# Altium integrated library ST Video Processor.IntLib: 6 symbols
Pins are listed as number, name and electrical type; pins without a type are passive.

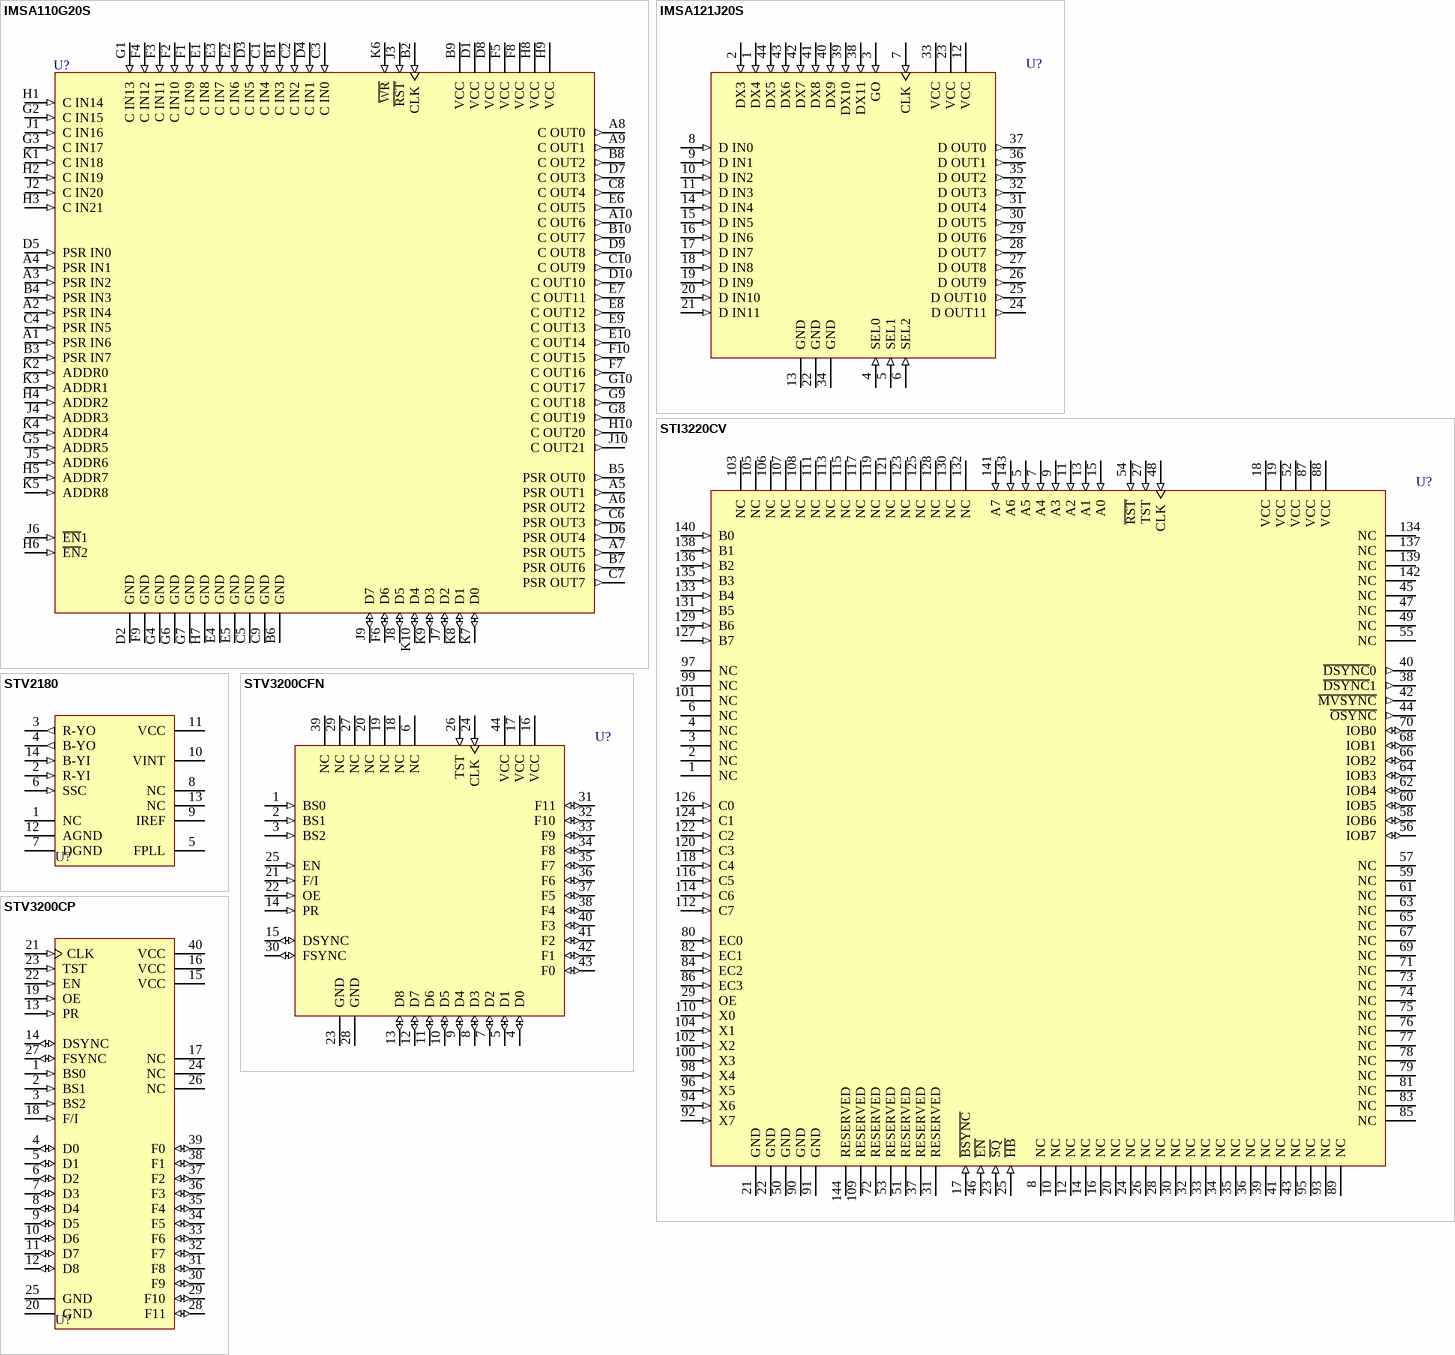
[diagram p0: symbols IMSA110G20S to STV3200CP]

## IMSA110G20S
designator U?
Image and Signal Processing Sub-System; Published: 24-Aug-2001; LatestRevisionDate: 06-Jun-2005; LatestRevisionNote: Stylized 3D Model Added.; DatasheetVersion: Jul-1992; PackageVersion: 1994; PackageReference: PGA100; Publisher: Altium Limited; PackageDescription: 100-Pin Pin Grid Array 2.54 mm Pitch; ComponentLink1Description: Manufacturer Link; ComponentLink1URL: http://www.st.com/
footprint PGA100 (PGA, 100-Leads, Body 27x27mm, Pitch 2.54mm)
3D model IMSA110-PGA100 (100-Pin Pin Grid Array 2.54 mm Pitch)
pins: A1 PSR IN6 (in), A2 PSR IN4 (in), A3 PSR IN2 (in), A4 PSR IN1 (in), A5 PSR OUT1 (out), A6 PSR OUT2 (out), A7 PSR OUT5 (out), A8 C OUT0 (out), A9 C OUT1 (out), A10 C OUT6 (out), B1 C IN3 (in), B2 CLK (in), B3 PSR IN7 (in), B4 PSR IN3 (in), B5 PSR OUT0 (out), B6 GND (power), B7 PSR OUT6 (out), B8 C OUT2 (out), B9 VCC (power), B10 C OUT7 (out), C1 C IN4 (in), C2 C IN2 (in), C3 C IN0 (in), C4 PSR IN5 (in), C5 GND (power), C6 PSR OUT3 (out), C7 PSR OUT7 (out), C8 C OUT4 (out), C9 GND (power), C10 C OUT9 (out), D1 VCC (power), D2 GND (power), D3 C IN5 (in), D4 C IN1 (in), D5 PSR IN0 (in), D6 PSR OUT4 (out), D7 C OUT3 (out), D8 VCC (power), D9 C OUT8 (out), D10 C OUT10 (out), E1 C IN8 (in), E2 C IN6 (in), E3 C IN7 (in), E4 GND (power), E5 GND (power), E6 C OUT5 (out), E7 C OUT11 (out), E8 C OUT12 (out), E9 C OUT13 (out), E10 C OUT14 (out), F1 C IN9 (in), F2 C IN10 (in), F3 C IN11 (in), F4 C IN12 (in), F5 VCC (power), F6 D6 (io), F7 C OUT16 (out), F8 VCC (power), F9 GND (power), F10 C OUT15 (out), G1 C IN13 (in), G2 C IN15 (in), G3 C IN17 (in), G4 GND (power), G5 ADDR5 (in), G6 GND (power), G7 GND (power), G8 C OUT19 (out), G9 C OUT18 (out), G10 C OUT17 (out), H1 C IN14 (in), H2 C IN19 (in), H3 C IN21 (in), H4 ADDR2 (in), H5 ADDR7 (in), H6 ~{EN}2 (in), H7 GND (power), H8 VCC (power), H9 VCC (power), H10 C OUT20 (out), J1 C IN16 (in), J2 C IN20 (in), J3 ~{RST} (in), J4 ADDR3 (in), J5 ADDR6 (in), J6 ~{EN}1 (in), J7 D2 (io), J8 D5 (io), J9 D7 (io), J10 C OUT21 (out), K1 C IN18 (in), K2 ADDR0 (in), K3 ADDR1 (in), K4 ADDR4 (in), K5 ADDR8 (in), K6 ~{WR} (in), K7 D0 (io), K8 D1 (io), K9 D3 (io), K10 D4 (io)

## IMSA121J20S
designator U?
2-D Discrete Cosine Transform Image Processor; Published: 24-Aug-2001; LatestRevisionDate: 13-Apr-2006; LatestRevisionNote: IPC-7351 Footprint Added.; DatasheetVersion: Jul-1992; PackageReference: PLCC44B; Publisher: Altium Limited; PackageDescription: 44-Pin Leaded Chip Carrier 1.27 mm Pitch; ComponentLink1Description: Manufacturer Link; ComponentLink1URL: http://www.st.com/
footprint PLCC44B_N (Leaded Chip Carrier, 44-Leads, Body 16.6x16.6mm, Pitch 1.27mm, IPC Medium Density)
footprint PLCC44B_L (Leaded Chip Carrier, 44-Leads, Body 16.6x16.6mm, Pitch 1.27mm, IPC High Density)
footprint PLCC44B_M (Leaded Chip Carrier, 44-Leads, Body 16.6x16.6mm, Pitch 1.27mm, IPC Low Density)
3D model IMSA121-PLCC44 (44-Pin Leaded Chip Carrier 1.27 mm Pitch)
pins: 1 DX4 (in), 2 DX3 (in), 3 GO (in), 4 SEL0 (in), 5 SEL1 (in), 6 SEL2 (in), 7 CLK (in), 8 D IN0 (in), 9 D IN1 (in), 10 D IN2 (in), 11 D IN3 (in), 12 VCC (power), 13 GND (power), 14 D IN4 (in), 15 D IN5 (in), 16 D IN6 (in), 17 D IN7 (in), 18 D IN8 (in), 19 D IN9 (in), 20 D IN10 (in), 21 D IN11 (in), 22 GND (power), 23 VCC (power), 24 D OUT11 (out), 25 D OUT10 (out), 26 D OUT9 (out), 27 D OUT8 (out), 28 D OUT7 (out), 29 D OUT6 (out), 30 D OUT5 (out), 31 D OUT4 (out), 32 D OUT3 (out), 33 VCC (power), 34 GND (power), 35 D OUT2 (out), 36 D OUT1 (out), 37 D OUT0 (out), 38 DX11 (in), 39 DX10 (in), 40 DX9 (in), 41 DX8 (in), 42 DX7 (in), 43 DX6 (in), 44 DX5 (in)

## STI3220CV
designator U?
Motion Estimation Processor; Published: 24-Aug-2001; LatestRevisionDate: 13-Apr-2006; LatestRevisionNote: IPC-7351 Footprint Added.; DatasheetVersion: Jan-1994; PackageVersion: Jun-2002; PackageReference: PQFP144; Publisher: Altium Limited; PackageDescription: 144-Pin Quad Flat Pack 0.65 mm Pitch; Code_IPC: QFP65P3120X3120-144; ComponentLink1Description: Manufacturer Link; ComponentLink1URL: http://www.st.com/
footprint PQFP144_N (QFP, 144-Leads, Body 28 x 28mm, Pitch 0.65mm, IPC Medium Density)
footprint PQFP144_L (QFP, 144-Leads, Body 28 x 28mm, Pitch 0.65mm, IPC High Density)
footprint PQFP144_M (QFP, 144-Leads, Body 28 x 28mm, Pitch 0.65mm, IPC Low Density)
3D model STi3220-PQFP144 (144-Pin Quad Flat Pack 0.65 mm Pitch)
pins: 1 NC, 2 NC, 3 NC, 4 NC, 5 A5 (in), 6 NC, 7 A4 (in), 8 NC, 9 A3 (in), 10 NC, 11 A2 (in), 12 NC, 13 A1 (in), 14 NC, 15 A0 (in), 16 NC, 17 ~{BSYNC} (in), 18 VCC (power), 19 VCC (power), 20 NC, 21 GND (power), 22 GND (power), 23 ~{SQ} (in), 24 NC, 25 ~{HB} (in), 26 NC, 27 TST (in), 28 NC, 29 OE (in), 30 NC, 31 RESERVED, 32 NC, 33 NC, 34 NC, 35 NC, 36 NC, 37 RESERVED, 38 ~{DSYNC}1 (out), 39 NC, 40 ~{DSYNC}0 (out), 41 NC, 42 ~{MVSYNC} (out), 43 NC, 44 ~{OSYNC} (out), 45 NC, 46 ~{EN} (in), 47 NC, 48 CLK (in), 49 NC, 50 GND (power), 51 RESERVED, 52 VCC (power), 53 RESERVED, 54 ~{RST} (in), 55 NC, 56 IOB7 (io), 57 NC, 58 IOB6 (io), 59 NC, 60 IOB5 (io), 61 NC, 62 IOB4 (io), 63 NC, 64 IOB3 (io), 65 NC, 66 IOB2 (io), 67 NC, 68 IOB1 (io), 69 NC, 70 IOB0 (io), 71 NC, 72 RESERVED, 73 NC, 74 NC, 75 NC, 76 NC, 77 NC, 78 NC, 79 NC, 80 EC0 (in), 81 NC, 82 EC1 (in), 83 NC, 84 EC2 (in), 85 NC, 86 EC3 (in), 87 VCC (power), 88 VCC (power), 89 NC, 90 GND (power), 91 GND (power), 92 X7 (in), 93 NC, 94 X6 (in), 95 NC, 96 X5 (in), 97 NC, 98 X4 (in), 99 NC, 100 X3 (in), 101 NC, 102 X2 (in), 103 NC, 104 X1 (in), 105 NC, 106 NC, 107 NC, 108 NC, 109 RESERVED, 110 X0 (in), 111 NC, 112 C7 (in), 113 NC, 114 C6 (in), 115 NC, 116 C5 (in), 117 NC, 118 C4 (in), 119 NC, 120 C3 (in), 121 NC, 122 C2 (in), 123 NC, 124 C1 (in), 125 NC, 126 C0 (in), 127 B7 (in), 128 NC, 129 B6 (in), 130 NC, 131 B5 (in), 132 NC, 133 B4 (in), 134 NC, 135 B3 (in), 136 B2 (in), 137 NC, 138 B1 (in), 139 NC, 140 B0 (in), 141 A7 (in), 142 NC, 143 A6 (in), 144 RESERVED

## STV2180
designator U?
Base Band Chroma Delay Line; Published: 24-Aug-2001; LatestRevisionDate: 06-Jun-2005; LatestRevisionNote: Stylized 3D Model Added.; DatasheetVersion: Jun-1995; PackageVersion: Jan-1997; PackageReference: DIP14; Publisher: Altium Limited; PackageDescription: DIP; 14 Leads; Row Spacing 7.62 mm; Pitch 2.54 mm; ComponentLink1Description: Manufacturer Link; ComponentLink1URL: http://www.st.com/
footprint DIP14 (DIP; 14 Leads; Row Spacing 7.62 mm; Pitch 2.54 mm)
3D model DIP14 (DIP; 14 Leads; Row Spacing 7.62 mm; Pitch 2.54 mm)
pins: 1 NC, 2 R-YI (in), 3 R-YO (out), 4 B-YO (out), 5 FPLL, 6 SSC (in), 7 DGND (power), 8 NC, 9 IREF, 10 VINT, 11 VCC (power), 12 AGND (power), 13 NC, 14 B-YI (in)

## STV3200CFN
designator U?
Discrete Cosine Transform; Published: 24-Aug-2001; LatestRevisionDate: 13-Apr-2006; LatestRevisionNote: IPC-7351 Footprint Added.; DatasheetVersion: Jul-1992; PackageVersion: Feb-1997; PackageReference: PLCC44A; Publisher: Altium Limited; PackageDescription: 44-Pin Leaded Chip Carrier 1.27 mm Pitch; Code_IPC: PLCC-44; ComponentLink1Description: Manufacturer Link; ComponentLink1URL: http://www.st.com/
footprint PLCC44A_N (Leaded Chip Carrier, 44-Leads, Body 16.6x16.6mm, Pitch 1.27mm, IPC Medium Density)
footprint PLCC44A_L (Leaded Chip Carrier, 44-Leads, Body 16.6x16.6mm, Pitch 1.27mm, IPC High Density)
footprint PLCC44A_M (Leaded Chip Carrier, 44-Leads, Body 16.6x16.6mm, Pitch 1.27mm, IPC Low Density)
3D model STV3200-PLCC44 (44-Pin Leaded Chip Carrier 1.27 mm Pitch)
pins: 1 BS0 (in), 2 BS1 (in), 3 BS2 (in), 4 D0 (io), 5 D1 (io), 6 NC, 7 D2 (io), 8 D3 (io), 9 D4 (io), 10 D5 (io), 11 D6 (io), 12 D7 (io), 13 D8 (io), 14 PR (in), 15 DSYNC (io), 16 VCC (power), 17 VCC (power), 18 NC, 19 NC, 20 NC, 21 F/I (in), 22 OE (in), 23 GND (power), 24 CLK (in), 25 EN (in), 26 TST (in), 27 NC, 28 GND (power), 29 NC, 30 FSYNC (io), 31 F11 (io), 32 F10 (io), 33 F9 (io), 34 F8 (io), 35 F7 (io), 36 F6 (io), 37 F5 (io), 38 F4 (io), 39 NC, 40 F3 (io), 41 F2 (io), 42 F1 (io), 43 F0 (io), 44 VCC (power)

## STV3200CP
designator U?
Discrete Cosine Transform; Published: 24-Aug-2001; LatestRevisionDate: 06-Jun-2005; LatestRevisionNote: Stylized 3D Model Added.; DatasheetVersion: Jul-1992; PackageVersion: Jun-1998; PackageReference: PDIP40; Publisher: Altium Limited; PackageDescription: DIP, Plastic; 40 Leads; Row Spacing 15.24 mm; Pitch 2.54 mm; ComponentLink1Description: Manufacturer Link; ComponentLink1URL: http://www.st.com/
footprint PDIP40 (DIP, Plastic; 40 Leads; Row Spacing 15.24 mm; Pitch 2.54 mm)
3D model PDIP40B (DIP, Plastic; 40 Leads; Row Spacing 15.24 mm; Pitch 2.54 mm)
pins: 1 BS0 (in), 2 BS1 (in), 3 BS2 (in), 4 D0 (io), 5 D1 (io), 6 D2 (io), 7 D3 (io), 8 D4 (io), 9 D5 (io), 10 D6 (io), 11 D7 (io), 12 D8 (io), 13 PR (in), 14 DSYNC (io), 15 VCC (power), 16 VCC (power), 17 NC, 18 F/I (in), 19 OE (in), 20 GND (power), 21 CLK (in), 22 EN (in), 23 TST (in), 24 NC, 25 GND (power), 26 NC, 27 FSYNC (io), 28 F11 (io), 29 F10 (io), 30 F9 (io), 31 F8 (io), 32 F7 (io), 33 F6 (io), 34 F5 (io), 35 F4 (io), 36 F3 (io), 37 F2 (io), 38 F1 (io), 39 F0 (io), 40 VCC (power)